# Altium schematic symbol library C_0402.SchLib: 1 symbol
Pins are listed as number, name and electrical type; pins without a type are passive.

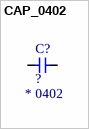
[diagram p0: symbol CAP_0402]

## CAP_0402
designator C?, comment ?  Package: 0402
Multilayer Ceramic Capacitors MLCC - SMD/SMT ROHS; Manufacturer: *; Manufacturer Part: *; Value: ?; LCSC: *; Voltage: *
footprint C0402
pins: 1, 2